# Altium integrated library ESP32-WROVER.IntLib: 1 symbol
Pins are listed as number, name and electrical type; pins without a type are passive.

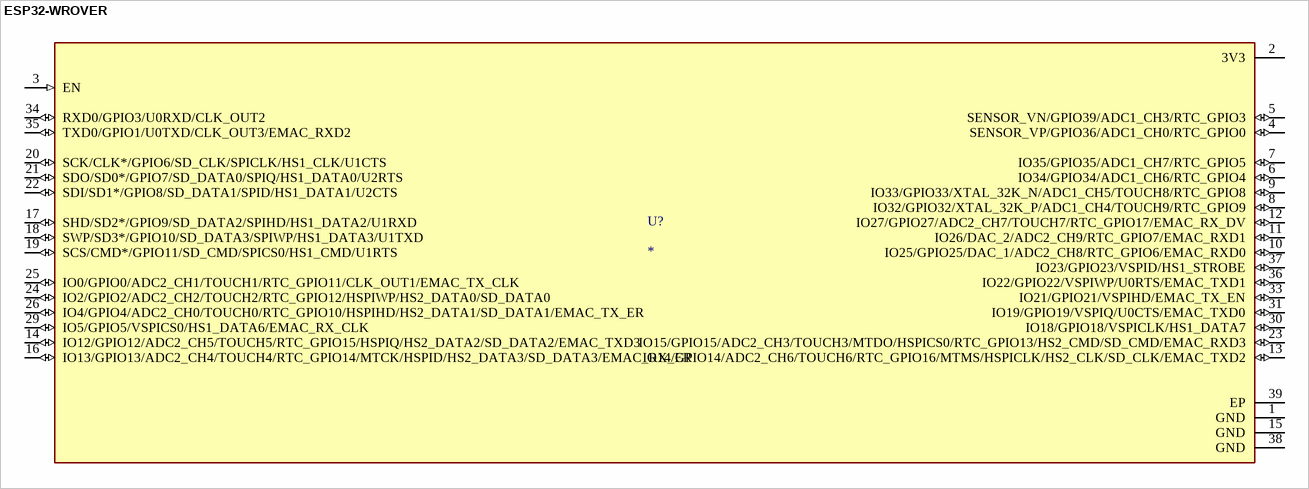
[diagram p0: symbol ESP32-WROVER]

## ESP32-WROVER
designator U?
Module: combo; GPIO, I2C x2, I2S x2, SDIO, SPI x3, UART x3; 19.5dBm; MP: ESP32-WROVER; Value: *; Package: None; Availability: Unavailable; Price: None
footprint XCVR_ESP32-WROVER
pins: 1 GND (power), 2 3V3 (power), 3 EN (in), 4 SENSOR_VP/GPIO36/ADC1_CH0/RTC_GPIO0 (io), 5 SENSOR_VN/GPIO39/ADC1_CH3/RTC_GPIO3 (io), 6 IO34/GPIO34/ADC1_CH6/RTC_GPIO4 (io), 7 IO35/GPIO35/ADC1_CH7/RTC_GPIO5 (io), 8 IO32/GPIO32/XTAL_32K_P/ADC1_CH4/TOUCH9/RTC_GPIO9 (io), 9 IO33/GPIO33/XTAL_32K_N/ADC1_CH5/TOUCH8/RTC_GPIO8 (io), 10 IO25/GPIO25/DAC_1/ADC2_CH8/RTC_GPIO6/EMAC_RXD0 (io), 11 IO26/DAC_2/ADC2_CH9/RTC_GPIO7/EMAC_RXD1 (io), 12 IO27/GPIO27/ADC2_CH7/TOUCH7/RTC_GPIO17/EMAC_RX_DV (io), 13 IO14/GPIO14/ADC2_CH6/TOUCH6/RTC_GPIO16/MTMS/HSPICLK/HS2_CLK/SD_CLK/EMAC_TXD2 (io), 14 IO12/GPIO12/ADC2_CH5/TOUCH5/RTC_GPIO15/HSPIQ/HS2_DATA2/SD_DATA2/EMAC_TXD3 (io), 15 GND (power), 16 IO13/GPIO13/ADC2_CH4/TOUCH4/RTC_GPIO14/MTCK/HSPID/HS2_DATA3/SD_DATA3/EMAC_RX_ER (io), 17 SHD/SD2*/GPIO9/SD_DATA2/SPIHD/HS1_DATA2/U1RXD (io), 18 SWP/SD3*/GPIO10/SD_DATA3/SPIWP/HS1_DATA3/U1TXD (io), 19 SCS/CMD*/GPIO11/SD_CMD/SPICS0/HS1_CMD/U1RTS (io), 20 SCK/CLK*/GPIO6/SD_CLK/SPICLK/HS1_CLK/U1CTS (io), 21 SDO/SD0*/GPIO7/SD_DATA0/SPIQ/HS1_DATA0/U2RTS (io), 22 SDI/SD1*/GPIO8/SD_DATA1/SPID/HS1_DATA1/U2CTS (io), 23 IO15/GPIO15/ADC2_CH3/TOUCH3/MTDO/HSPICS0/RTC_GPIO13/HS2_CMD/SD_CMD/EMAC_RXD3 (io), 24 IO2/GPIO2/ADC2_CH2/TOUCH2/RTC_GPIO12/HSPIWP/HS2_DATA0/SD_DATA0 (io), 25 IO0/GPIO0/ADC2_CH1/TOUCH1/RTC_GPIO11/CLK_OUT1/EMAC_TX_CLK (io), 26 IO4/GPIO4/ADC2_CH0/TOUCH0/RTC_GPIO10/HSPIHD/HS2_DATA1/SD_DATA1/EMAC_TX_ER (io), 29 IO5/GPIO5/VSPICS0/HS1_DATA6/EMAC_RX_CLK (io), 30 IO18/GPIO18/VSPICLK/HS1_DATA7 (io), 31 IO19/GPIO19/VSPIQ/U0CTS/EMAC_TXD0 (io), 33 IO21/GPIO21/VSPIHD/EMAC_TX_EN (io), 34 RXD0/GPIO3/U0RXD/CLK_OUT2 (io), 35 TXD0/GPIO1/U0TXD/CLK_OUT3/EMAC_RXD2 (io), 36 IO22/GPIO22/VSPIWP/U0RTS/EMAC_TXD1 (io), 37 IO23/GPIO23/VSPID/HS1_STROBE (io), 38 GND (power), 39 EP (power)